# Altium schematic symbol library 74651173R.SchLib: 10 symbols
Pins are listed as number, name and electrical type; pins without a type are passive.

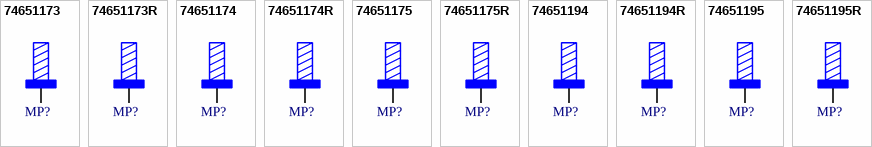
[diagram p0: symbols 74651173 to 74651195R]

## 74651173
designator MP?, comment M3 x 5mm  (value not drawn)
WP-THRSH REDCUBE THR with external thread, M3 x 5mm, 50A; Manufacturer Part Number: 74651173; Manufacturer: Wurth Elektronik; Surface: Tin; ComponentLink1Description: Website Link; ComponentLink1URL: https://www.we-online.com/redexpert/article/74651173?ad; ComponentLink2Description: Datasheet Link; ComponentLink2URL: https://www.we-online.com/redexpert/spec/74651173?ad; Category: REDCUBE THR; Match Code: WP-THRSH; Mount: Through Hole Reflow; Operating Temperature Max: 150°C; Operating Temperature Min: -55°C; Packaging: Tape and Reel; Length: 7mm; Width: 7mm; Height: 8.5mm; Material: Brass; Number of Pins: 4; Rated Current: 50A; Thread Length: 5mm; Thread Size: M3
footprint 74651173
pins: 1

## 74651173R
designator MP?, comment M3 x 5mm  (value not drawn)
WP-THRSH REDCUBE THR with external thread, M3 x 5mm, 50A; Manufacturer Part Number: 74651173R; Manufacturer: Wurth Elektronik; Surface: Tin; ComponentLink1Description: Website Link; ComponentLink1URL: https://www.we-online.com/redexpert/article/74651173R?ad; ComponentLink2Description: Datasheet Link; ComponentLink2URL: https://www.we-online.com/redexpert/spec/74651173R?ad; Category: REDCUBE THR; Match Code: WP-THRSH; Mount: Through Hole Reflow; Operating Temperature Max: 150°C; Operating Temperature Min: -55°C; Packaging: Tape and Reel; Length: 7mm; Width: 7mm; Height: 8.5mm; Material: Brass; Number of Pins: 4; Rated Current: 50A; Thread Length: 5mm; Thread Size: M3
footprint 74651173
pins: 1

## 74651174
designator MP?, comment M4 x 5mm  (value not drawn)
WP-THRSH REDCUBE THR with external thread, M4 x 5mm, 50A; Manufacturer Part Number: 74651174; Manufacturer: Wurth Elektronik; Surface: Tin; ComponentLink1Description: Website Link; ComponentLink1URL: https://www.we-online.com/redexpert/article/74651174?ad; ComponentLink2Description: Datasheet Link; ComponentLink2URL: https://www.we-online.com/redexpert/spec/74651174?ad; Category: REDCUBE THR; Match Code: WP-THRSH; Mount: Through Hole Reflow; Operating Temperature Max: 150°C; Operating Temperature Min: -55°C; Packaging: Tape and Reel; Length: 7mm; Width: 7mm; Height: 8.5mm; Material: Brass; Number of Pins: 4; Rated Current: 50A; Thread Length: 5mm; Thread Size: M4
footprint 74651174
pins: 1

## 74651174R
designator MP?, comment M4 x 5mm  (value not drawn)
WP-THRSH REDCUBE THR with external thread, M4 x 5mm, 50A; Manufacturer Part Number: 74651174R; Manufacturer: Wurth Elektronik; Surface: Tin; ComponentLink1Description: Website Link; ComponentLink1URL: https://www.we-online.com/redexpert/article/74651174R?ad; ComponentLink2Description: Datasheet Link; ComponentLink2URL: https://www.we-online.com/redexpert/spec/74651174R?ad; Category: REDCUBE THR; Match Code: WP-THRSH; Mount: Through Hole Reflow; Operating Temperature Max: 150°C; Operating Temperature Min: -55°C; Packaging: Tape and Reel; Length: 7mm; Width: 7mm; Height: 8.5mm; Material: Brass; Number of Pins: 4; Rated Current: 50A; Thread Length: 5mm; Thread Size: M4
footprint 74651174
pins: 1

## 74651175
designator MP?, comment M5 x 7mm  (value not drawn)
WP-THRSH REDCUBE THR with external thread, M5 x 7mm, 50A; Manufacturer Part Number: 74651175; Manufacturer: Wurth Elektronik; Surface: Tin; ComponentLink1Description: Website Link; ComponentLink1URL: https://www.we-online.com/redexpert/article/74651175?ad; ComponentLink2Description: Datasheet Link; ComponentLink2URL: https://www.we-online.com/redexpert/spec/74651175?ad; Category: REDCUBE THR; Match Code: WP-THRSH; Mount: Through Hole Reflow; Operating Temperature Max: 150°C; Operating Temperature Min: -55°C; Packaging: Tape and Reel; Length: 7mm; Width: 7mm; Height: 10.5mm; Material: Brass; Number of Pins: 4; Rated Current: 50A; Thread Length: 7mm; Thread Size: M5
footprint 74651175
pins: 1

## 74651175R
designator MP?, comment M5 x 7mm  (value not drawn)
WP-THRSH REDCUBE THR with external thread, M5 x 7mm, 50A; Manufacturer Part Number: 74651175R; Manufacturer: Wurth Elektronik; Surface: Tin; ComponentLink1Description: Website Link; ComponentLink1URL: https://www.we-online.com/redexpert/article/74651175R?ad; ComponentLink2Description: Datasheet Link; ComponentLink2URL: https://www.we-online.com/redexpert/spec/74651175R?ad; Category: REDCUBE THR; Match Code: WP-THRSH; Mount: Through Hole Reflow; Operating Temperature Max: 150°C; Operating Temperature Min: -55°C; Packaging: Tape and Reel; Length: 7mm; Width: 7mm; Height: 10.5mm; Material: Brass; Number of Pins: 4; Rated Current: 50A; Thread Length: 7mm; Thread Size: M5
footprint 74651175
pins: 1

## 74651194
designator MP?, comment M4 x 5mm  (value not drawn)
WP-THRSH REDCUBE THR with external thread, M4 x 5mm, 85A; Manufacturer Part Number: 74651194; Manufacturer: Wurth Elektronik; Surface: Tin; ComponentLink1Description: Website Link; ComponentLink1URL: https://www.we-online.com/redexpert/article/74651194?ad; ComponentLink2Description: Datasheet Link; ComponentLink2URL: https://www.we-online.com/redexpert/spec/74651194?ad; Category: REDCUBE THR; Match Code: WP-THRSH; Mount: Through Hole Reflow; Operating Temperature Max: 150°C; Operating Temperature Min: -55°C; Packaging: Tape and Reel; Length: 10mm; Width: 10mm; Height: 8.5mm; Material: Brass; Number of Pins: 9; Rated Current: 85A; Thread Length: 5mm; Thread Size: M4
footprint 74651194
pins: 1

## 74651194R
designator MP?, comment M4 x 5mm  (value not drawn)
WP-THRSH REDCUBE THR with external thread, M4 x 5mm, 85A; Manufacturer Part Number: 74651194R; Manufacturer: Wurth Elektronik; Surface: Tin; ComponentLink1Description: Website Link; ComponentLink1URL: https://www.we-online.com/redexpert/article/74651194R?ad; ComponentLink2Description: Datasheet Link; ComponentLink2URL: https://www.we-online.com/redexpert/spec/74651194R?ad; Category: REDCUBE THR; Match Code: WP-THRSH; Mount: Through Hole Reflow; Operating Temperature Max: 150°C; Operating Temperature Min: -55°C; Packaging: Tape and Reel; Length: 10mm; Width: 10mm; Height: 8.5mm; Material: Brass; Number of Pins: 9; Rated Current: 85A; Thread Length: 5mm; Thread Size: M4
footprint 74651194
pins: 1

## 74651195
designator MP?, comment M5 x 7mm  (value not drawn)
WP-THRSH REDCUBE THR with external thread, M5 x 7mm, 85A; Manufacturer Part Number: 74651195; Manufacturer: Wurth Elektronik; Surface: Tin; ComponentLink1Description: Website Link; ComponentLink1URL: https://www.we-online.com/redexpert/article/74651195?ad; ComponentLink2Description: Datasheet Link; ComponentLink2URL: https://www.we-online.com/redexpert/spec/74651195?ad; Category: REDCUBE THR; Match Code: WP-THRSH; Mount: Through Hole Reflow; Operating Temperature Max: 150°C; Operating Temperature Min: -55°C; Packaging: Tape and Reel; Length: 10mm; Width: 10mm; Height: 10.5mm; Material: Brass; Number of Pins: 9; Rated Current: 85A; Thread Length: 7mm; Thread Size: M5
footprint 74651195
pins: 1

## 74651195R
designator MP?, comment M5 x 7mm  (value not drawn)
WP-THRSH REDCUBE THR with external thread, M5 x 7mm, 85A; Manufacturer Part Number: 74651195R; Manufacturer: Wurth Elektronik; Surface: Tin; ComponentLink1Description: Website Link; ComponentLink1URL: https://www.we-online.com/redexpert/article/74651195R?ad; ComponentLink2Description: Datasheet Link; ComponentLink2URL: https://www.we-online.com/redexpert/spec/74651195R?ad; Category: REDCUBE THR; Match Code: WP-THRSH; Mount: Through Hole Reflow; Operating Temperature Max: 150°C; Operating Temperature Min: -55°C; Packaging: Tape and Reel; Length: 10mm; Width: 10mm; Height: 10.5mm; Material: Brass; Number of Pins: 9; Rated Current: 85A; Thread Length: 7mm; Thread Size: M5
footprint 74651195
pins: 1